# Altium schematic symbol library Robot_2020.SchLib: 36 symbols
Pins are listed as number, name and electrical type; pins without a type are passive.

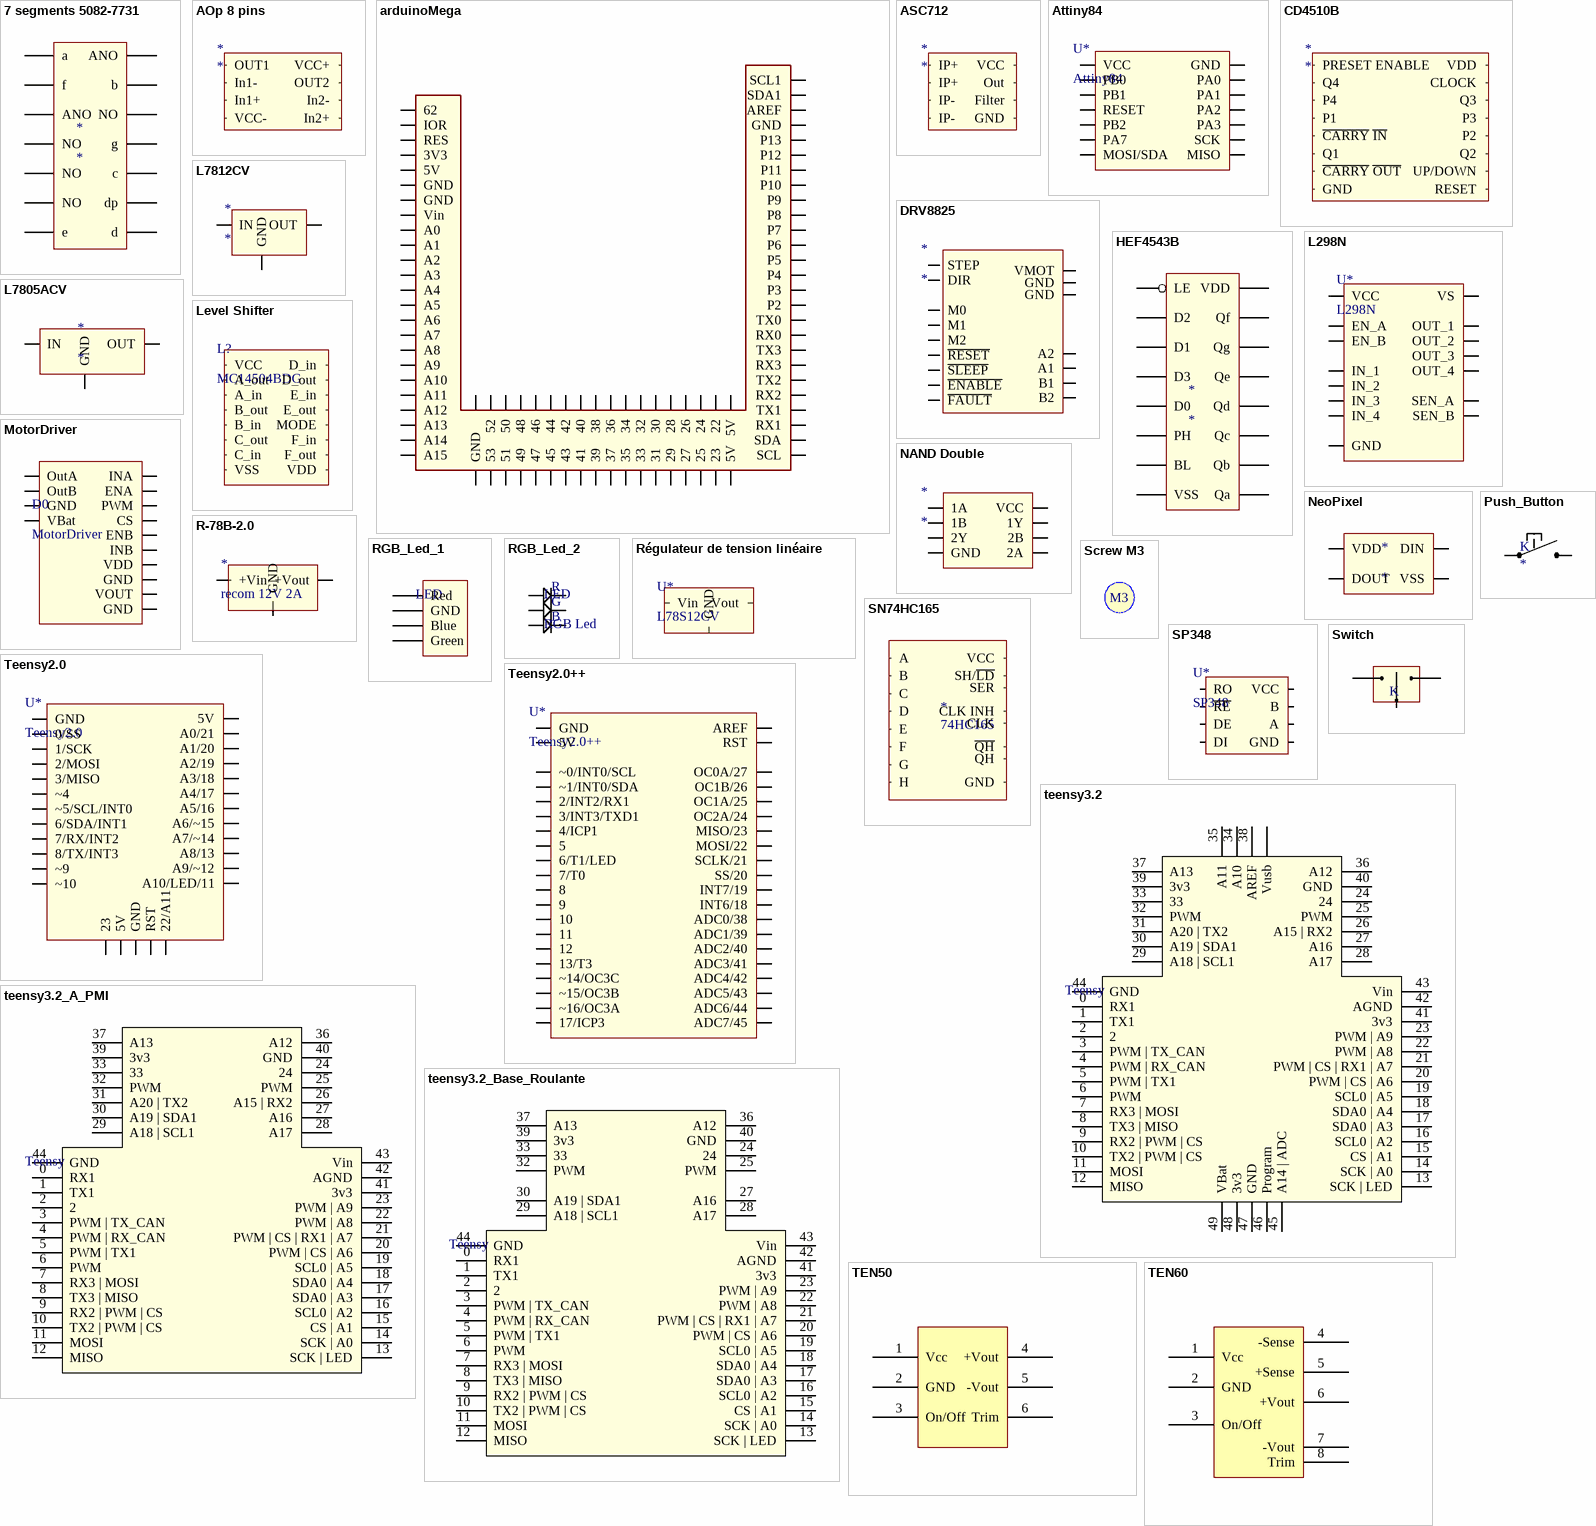
[diagram p0: symbols 7 segments 5082-7731 to TEN60]

## 7 segments 5082-7731
designator *
pins: 18 a, 19 f, 20 ANO, 21 NO, 22 NO, 23 NO, 24 e, 25 d, 26 dp, 27 c, 28 g, 29 NO, 30 b, 31 ANO

## AOp 8 pins
designator *
footprint SO8
pins: 1 OUT1, 2 In1-, 3 In1+, 4 VCC-, 5 In2+, 6 In2-, 7 OUT2, 8 VCC+

## arduinoMega
designator A0
LatestRevisionDate: 17-Jul-2002; LatestRevisionNote: Re-released for DXP Platform.; Publisher: Altium Limited
footprint ShieldMega (Arduino Mega 2560)
signal-integrity model Connector
pins: 0 RX0, 1 TX0, 2 P2, 3 P3, 4 P4, 5 P5, 6 P6, 7 P7, 8 P8, 9 P9, 10 P10, 11 P11, 12 P12, 13 P13, 14 TX3, 15 RX3, 16 TX2, 17 RX2, 18 TX1, 19 RX1, 20 SDA, 21 SCL, 22, 23, 24, 25, 26, 27, 28, 29, 30, 31, 32, 33, 34, 35, 36, 37, 38, 39, 40, 41, 42, 43, 44, 45, 46, 47, 48, 49, 50, 51, 52, 53, 54 RES, 55 3V3, 56 5V, 57 GND, 58 GND, 59 Vin, 60 A0, 61 A1, 62 A2, 63 A3, 64 A4, 65 A5, 66 A6, 67 A7, 68 A8, 69 A9, 70 A10, 71 A11, 72 A12, 73 A13, 74 A14, 75 A15, 76 GND, 77 AREF, 78 GND, 79 GND, 80 5V, 81 5V, 82 IOR, 83 62, 84 SDA1, 85 SCL1

## ASC712
designator *
footprint SOIC 8 (Footprint not found)
pins: 1 IP+, 2 IP+, 3 IP-, 4 IP-, 5 GND, 6 Filter, 7 Out, 8 VCC

## Attiny84
designator U*
footprint Attiny84 SOIC
pins: 1 VCC, 2 PB0, 3 PB1, 4 RESET, 5 PB2, 6 PA7, 7 MOSI/SDA, 8 MISO, 9 SCK, 10 PA3, 11 PA2, 12 PA1, 13 PA0, 14 GND

## CD4510B
designator *
pins: 33 PRESET ENABLE, 34 Q4, 35 P4, 36 P1, 37 ~{CARRY} ~{IN}, 38 Q1, 39 ~{CARRY} ~{OUT}, 40 GND, 41 RESET, 42 UP/DOWN, 43 Q2, 44 P2, 45 P3, 46 Q3, 47 CLOCK, 48 VDD

## DRV8825
designator *
Stepper Driver Module
footprint DRV8825 (Stepper Driver)
pins: 1 ~{ENABLE}, 2 M0, 3 M1, 4 M2, 5 ~{RESET}, 6 ~{SLEEP}, 7 STEP, 8 DIR, 9 GND, 10 ~{FAULT}, 11 A2, 12 A1, 13 B1, 14 B2, 15 GND, 16 VMOT

## HEF4543B
designator *
pins: 1 LE, 2 D2, 3 D1, 4 D3, 5 D0, 6 PH, 7 BL, 8 VSS, 9 Qa, 10 Qb, 11 Qc, 12 Qd, 13 Qe, 14 Qg, 15 Qf, 16 VDD

## L298N
designator U*
Motor Driver 2 outputs
footprint L298N (Motor driver, 2 channel)
pins: 1 SEN_A, 2 OUT_1, 3 OUT_2, 4 VS, 5 IN_1, 6 EN_A, 7 IN_2, 8 GND, 9 VCC, 10 IN_3, 11 EN_B, 12 IN_4, 13 OUT_3, 14 OUT_4, 15 SEN_B

## L7805ACV
designator *
Conv 5V 1A
pins: 1 IN, 2 GND, 3 OUT

## L7812CV
designator *
Conv L 12V 1.5A
footprint TO-220
pins: 1 IN, 2 GND, 3 OUT

## Level Shifter
designator L?, comment MC14504BDG
pins: 1 VCC, 2 A_out, 3 A_in, 4 B_out, 5 B_in, 6 C_out, 7 C_in, 8 VSS, 9 D_in, 10 D_out, 11 E_in, 12 E_out, 13 MODE, 14 F_in, 15 F_out, 16 VDD

## MotorDriver
designator D0
Motor Driver VNH5019
footprint MotorDriver (Footprint not found)
pins: 0 OutA, 1 OutB, 2 GND, 3 VBat, 4 INA, 5 ENA, 6 PWM, 7 CS, 8 ENB, 9 INB, 10 VDD, 11 GND, 12 VOUT, 13 GND

## NAND Double
designator *
footprint SOIC_8 (SOIC, 8-Leads, Body 4,90x3,90mm, Pitch 1,27mm, IPC Medium Density)
pins: 1 1A, 2 1B, 3 2Y, 4 GND, 5 2A, 6 2B, 7 1Y, 8 VCC

## NeoPixel
designator *
footprint Neopixel (Footprint not found); pin to pad 1>2 2>3 3>4 4>1
pins: 1 DOUT, 2 VSS, 3 DIN, 4 VDD

## Push_Button
designator K
Push Button NO, ref FSM4JH
footprint PUSH_BUTTON (FSM4JH)
pins: 1, 2

## R-78B-2.0
designator *, comment recom 12V 2A
footprint R-78B
pins: 1 +Vin, 2 GND, 3 +Vout

## RGB_Led_1
designator LED, comment RGB LED  (value not drawn)
RGB LED RS:861-4307
footprint RGB Led
pins: 1 Red, 2 GND, 3 Blue, 4 Green

## RGB_Led_2
designator LED, comment RGB Led
RGB Led RS:667-5483
footprint RGB_Led_PLCC (RGB Led PLCC format)
pins: 1 Blue, 2 Blue, 3 Blue, 4 Blue, 5 Blue, 6 Blue
text: R; G; B

## Régulateur de tension linéaire
designator U*, comment L78S12CV
Vout: *; A: *
pins: 1 Vout, 2 GND, 3 Vin

## Screw M3
designator S1  (value not drawn)  (mechanical)
footprint Screw M3 (M3 iso Screw)
text: M3

## SN74HC165
designator *, comment 74HC165
8 bits Shift Register
footprint 16 pins SOIC, TI (SOIC, 16-Leads, Body 9,90x3,90mm, Pitch 1,27mm, IPC Medium Density)
pins: 1 SH/~{LD}, 2 CLK, 3 E, 4 F, 5 G, 6 H, 7 ~{QH}, 8 GND, 9 QH, 10 SER, 11 A, 12 B, 13 C, 14 D, 15 CLK INH, 16 VCC

## SP348
designator U*
RS-485 Transceivers
footprint SP348 (SOIC, SP348 Transceiver)
pins: 1 RO, 2 ~{RE}, 3 DE, 4 DI, 5 GND, 6 A, 7 B, 8 VCC

## Switch
designator K  (value not drawn)
3 pos switch, 09.03290.01
footprint SWITCH (2 pos switch,  09.03290.01)
pins: 0 L, 1 M, 2 R

## Teensy2.0
designator U*
Teensy 2.0 with minimal pinout
footprint Teensy2.0 (Teensy2.0 with minimal)
pins: 1 GND, 2 0/SS, 3 1/SCK, 4 2/MOSI, 5 3/MISO, 6 ~4, 7 ~5/SCL/INT0, 8 6/SDA/INT1, 9 7/RX/INT2, 10 8/TX/INT3, 11 ~9, 12 ~10, 13 23, 14 5V, 15 GND, 16 RST, 17 22/A11, 18 A10/LED/11, 19 A9/~12, 20 A8/13, 21 A7/~14, 22 A6/~15, 23 A5/16, 24 A4/17, 25 A3/18, 26 A2/19, 27 A1/20, 28 A0/21, 29 5V

## Teensy2.0++
designator U*
Teensy2.0++ with minimal pins
pins: 1 GND, 2 OC0A/27, 3 ~0/INT0/SCL, 4 ~1/INT0/SDA, 5 2/INT2/RX1, 6 3/INT3/TXD1, 7 4/ICP1, 8 5, 9 6/T1/LED, 10 7/T0, 11 8, 12 9, 13 10, 14 11, 15 12, 16 13/T3, 17 ~14/OC3C, 18 ~15/OC3B, 19 ~16/OC3A, 20 17/ICP3, 23 RST, 24 ADC7/45, 25 ADC6/44, 26 ADC5/43, 27 ADC4/42, 28 ADC3/41, 29 ADC2/40, 30 ADC1/39, 31 ADC0/38, 32 AREF, 34 INT6/18, 35 INT7/19, 36 SS/20, 37 SCLK/21, 38 MOSI/22, 39 MISO/23, 40 OC2A/24, 41 OC1A/25, 42 OC1B/26, 43 5V

## teensy3.2
designator Teensy, comment Teensy 3.2  (value not drawn)
footprint teensy (Teensy 3.2)
pins: 0 RX1, 1 TX1, 2, 3 PWM | TX_CAN, 4 PWM | RX_CAN, 5 PWM | TX1, 6 PWM, 7 RX3 | MOSI, 8 TX3 | MISO, 9 RX2 | PWM | CS, 10 TX2 | PWM | CS, 11 MOSI, 12 MISO, 13 SCK | LED, 14 SCK | A0, 15 CS | A1, 16 SCL0 | A2, 17 SDA0 | A3, 18 SDA0 | A4, 19 SCL0 | A5, 20 PWM | CS | A6, 21 PWM | CS | RX1 | A7, 22 PWM | A8, 23 PWM | A9, 24, 25 PWM, 26 A15 | RX2, 27 A16, 28 A17, 29 A18 | SCL1, 30 A19 | SDA1, 31 A20 | TX2, 32 PWM, 33, 34 A10, 35 A11, 36 A12, 37 A13, 38 AREF, 39 3v3, 40 GND, 41 3v3, 42 AGND, 43 Vin, 44 GND, 45 A14 | ADC, 46 Program, 47 GND, 48 3v3, 49 VBat, 50 Vusb

## teensy3.2_A_PMI
designator Teensy, comment Teensy 3.2  (value not drawn)
teensy3.2_A_PMI
footprint teensy (Teensy 3.2)
footprint Teensy_A_PMI
pins: 0 RX1, 1 TX1, 2, 3 PWM | TX_CAN, 4 PWM | RX_CAN, 5 PWM | TX1, 6 PWM, 7 RX3 | MOSI, 8 TX3 | MISO, 9 RX2 | PWM | CS, 10 TX2 | PWM | CS, 11 MOSI, 12 MISO, 13 SCK | LED, 14 SCK | A0, 15 CS | A1, 16 SCL0 | A2, 17 SDA0 | A3, 18 SDA0 | A4, 19 SCL0 | A5, 20 PWM | CS | A6, 21 PWM | CS | RX1 | A7, 22 PWM | A8, 23 PWM | A9, 24, 25 PWM, 26 A15 | RX2, 27 A16, 28 A17, 29 A18 | SCL1, 30 A19 | SDA1, 31 A20 | TX2, 32 PWM, 33, 36 A12, 37 A13, 39 3v3, 40 GND, 41 3v3, 42 AGND, 43 Vin, 44 GND

## teensy3.2_Base_Roulante
designator Teensy, comment Teensy 3.2  (value not drawn)
footprint teensy_3,2_Base_Roulante (Teensy 3.2)
pins: 0 RX1, 1 TX1, 2, 3 PWM | TX_CAN, 4 PWM | RX_CAN, 5 PWM | TX1, 6 PWM, 7 RX3 | MOSI, 8 TX3 | MISO, 9 RX2 | PWM | CS, 10 TX2 | PWM | CS, 11 MOSI, 12 MISO, 13 SCK | LED, 14 SCK | A0, 15 CS | A1, 16 SCL0 | A2, 17 SDA0 | A3, 18 SDA0 | A4, 19 SCL0 | A5, 20 PWM | CS | A6, 21 PWM | CS | RX1 | A7, 22 PWM | A8, 23 PWM | A9, 24, 25 PWM, 27 A16, 28 A17, 29 A18 | SCL1, 30 A19 | SDA1, 32 PWM, 33, 36 A12, 37 A13, 39 3v3, 40 GND, 41 3v3, 42 AGND, 43 Vin, 44 GND

## TEN50
designator TEN50-1
TRACO TEN50; LatestRevisionDate: 17-Jul-2002; LatestRevisionNote: Re-released for DXP Platform.; Publisher: Altium Limited
signal-integrity model Connector
footprint TRACO_2x1inch (Footprint not found)
pins: 1 Vcc, 2 GND, 3 On/Off, 4 +Vout, 5 -Vout, 6 Trim

## TEN60
designator TEN60-1
TRACO TEN60; LatestRevisionDate: 17-Jul-2002; LatestRevisionNote: Re-released for DXP Platform.; Publisher: Altium Limited
signal-integrity model Connector
footprint TRACO_2x2inch (Footprint not found)
pins: 1 Vcc, 2 GND, 3 On/Off, 4 -Sense, 5 +Sense, 6 +Vout, 7 -Vout, 8 Trim

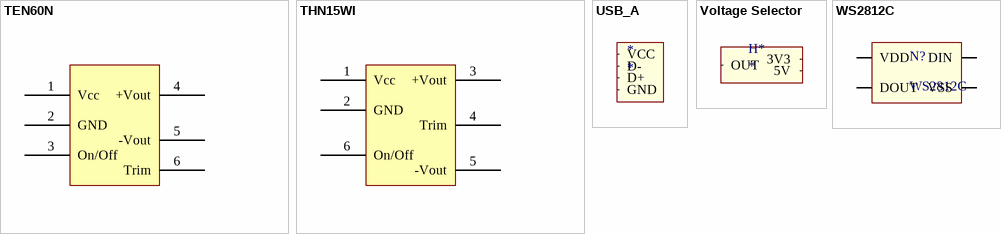
[diagram p1: symbols TEN60N to WS2812C]

## TEN60N
designator TEN60N-1
TRACO TEN60N; LatestRevisionDate: 17-Jul-2002; LatestRevisionNote: Re-released for DXP Platform.; Publisher: Altium Limited
signal-integrity model Connector
footprint TRACO_2x1inch (Footprint not found)
pins: 1 Vcc, 2 GND, 3 On/Off, 4 +Vout, 5 -Vout, 6 Trim

## THN15WI
designator THN15-1
TRACO THN15WI; LatestRevisionDate: 17-Jul-2002; LatestRevisionNote: Re-released for DXP Platform.; Publisher: Altium Limited
signal-integrity model Connector
footprint TRACO_1x1inch
pins: 1 Vcc, 2 GND, 3 +Vout, 4 Trim, 5 -Vout, 6 On/Off

## USB_A
designator *
footprint USB Connector (87520-0010BLF); pin to pad 1>VCC 2>D- 3>D+ 4>GND
pins: 1 VCC, 2 D-, 3 D+, 4 GND

## Voltage Selector
designator H*
Selection of voltage by soldering pads
footprint VOLTAGE SELECTOR (3 Pads for Voltage Selection)
pins: 1 5V, 2 3V3, 3 OUT

## WS2812C
designator N?
Intelligent control LED
footprint WS2812C
pins: 1 VDD, 2 DOUT, 3 VSS, 4 DIN